# Altium schematic symbol library MH2029-300Y.SchLib: 1 symbol
Pins are listed as number, name and electrical type; pins without a type are passive.

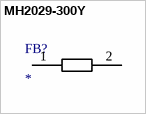
[diagram p0: symbol MH2029-300Y]

## MH2029-300Y
designator FB?
Ferrite Bead; Manufacturer_Name: Bourns; Manufacturer_Part_Number: MH2029-300Y; Allied_Number: 71024701; Datasheet Link: http://www.mouser.com/ds/2/54/h-777565.pdf; Height: 1.3mm; Mouser Part Number: 652-MH2029-300Y; Mouser Price/Stock: https://www.mouser.com/Search/Refine.aspx?Keyword=652-MH2029-300Y; RS Part Number: 1814464; RS Price/Stock: http://uk.rs-online.com/web/p/products/1814464; Allied Price/Stock: https://www.alliedelec.com/bourns-mh2029-300y/71024701/
footprint BEADC2016X130N
pins: 1, 2